# Altium footprint library ERM8-075-02.0-L-DV.PcbLib: 1 footprints
Each footprint in its own frame and in the unit in brackets; x right, y up, seen from the top. Pads: shape width x height; smd on the part's side, far side on the other; paste and mask are expansions set on the pad; w line width, h text height; cw(c..) or ccw(c..) is an arc to the next point about the centre after c.
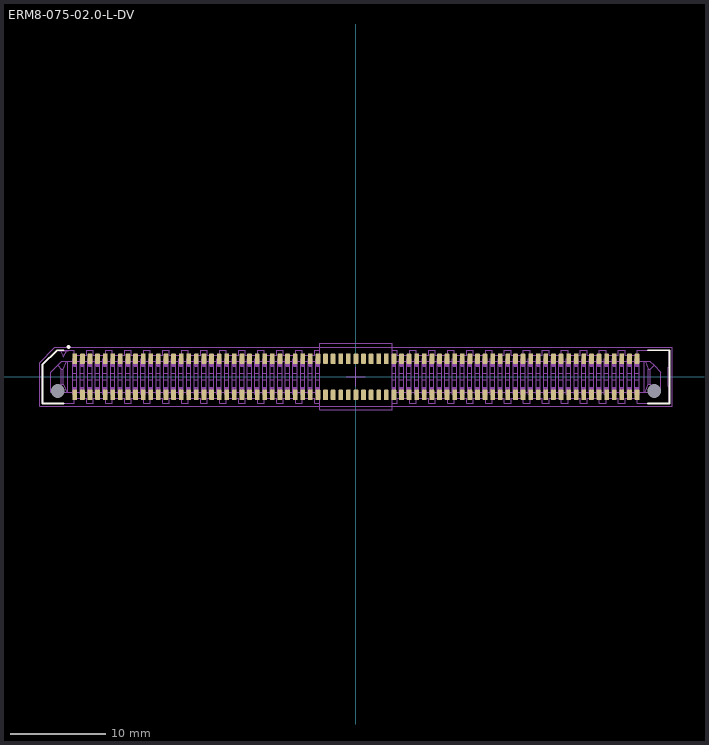
[diagram p0: the footprint, top view; thin cyan lines are the x and y axes]

## ERM8-075-02.0-L-DV [mm]
height 6.015
pads (152):
  rrect33% 0.5x1.1 smd: 1(-29.6,1.9) 2(-29.6,-1.9) 3(-28.8,1.9) 4(-28.8,-1.9) 5(-28,1.9) 6(-28,-1.9) 7(-27.2,1.9) 8(-27.2,-1.9) 9(-26.4,1.9) 10(-26.4,-1.9) 11(-25.6,1.9) 12(-25.6,-1.9) 13(-24.8,1.9) 14(-24.8,-1.9) 15(-24,1.9) 16(-24,-1.9) 17(-23.2,1.9) 18(-23.2,-1.9) 19(-22.4,1.9) 20(-22.4,-1.9) 21(-21.6,1.9) 22(-21.6,-1.9) 23(-20.8,1.9) 24(-20.8,-1.9) 25(-20,1.9) 26(-20,-1.9) 27(-19.2,1.9) 28(-19.2,-1.9) 29(-18.4,1.9) 30(-18.4,-1.9) 31(-17.6,1.9) 32(-17.6,-1.9) 33(-16.8,1.9) 34(-16.8,-1.9) 35(-16,1.9) 36(-16,-1.9) 37(-15.2,1.9) 38(-15.2,-1.9) 39(-14.4,1.9) 40(-14.4,-1.9) 41(-13.6,1.9) 42(-13.6,-1.9) 43(-12.8,1.9) 44(-12.8,-1.9) 45(-12,1.9) 46(-12,-1.9) 47(-11.2,1.9) 48(-11.2,-1.9) 49(-10.4,1.9) 50(-10.4,-1.9) 51(-9.6,1.9) 52(-9.6,-1.9) 53(-8.8,1.9) 54(-8.8,-1.9) 55(-8,1.9) 56(-8,-1.9) 57(-7.2,1.9) 58(-7.2,-1.9) 59(-6.4,1.9) 60(-6.4,-1.9) 61(-5.6,1.9) 62(-5.6,-1.9) 63(-4.8,1.9) 64(-4.8,-1.9) 65(-4,1.9) 66(-4,-1.9) 67(-3.2,1.9) 68(-3.2,-1.9) 69(-2.4,1.9) 70(-2.4,-1.9) 71(-1.6,1.9) 72(-1.6,-1.9) 73(-0.8,1.9) 74(-0.8,-1.9) 75(0,1.9) 76(0,-1.9) 77(0.8,1.9) 78(0.8,-1.9) 79(1.6,1.9) 80(1.6,-1.9) 81(2.4,1.9) 82(2.4,-1.9) 83(3.2,1.9) 84(3.2,-1.9) 85(4,1.9) 86(4,-1.9) 87(4.8,1.9) 88(4.8,-1.9) 89(5.6,1.9) 90(5.6,-1.9) 91(6.4,1.9) 92(6.4,-1.9) 93(7.2,1.9) 94(7.2,-1.9) 95(8,1.9) 96(8,-1.9) 97(8.8,1.9) 98(8.8,-1.9) 99(9.6,1.9) 100(9.6,-1.9) 101(10.4,1.9) 102(10.4,-1.9) 103(11.2,1.9) 104(11.2,-1.9) 105(12,1.9) 106(12,-1.9) 107(12.8,1.9) 108(12.8,-1.9) 109(13.6,1.9) 110(13.6,-1.9) 111(14.4,1.9) 112(14.4,-1.9) 113(15.2,1.9) 114(15.2,-1.9) 115(16,1.9) 116(16,-1.9) 117(16.8,1.9) 118(16.8,-1.9) 119(17.6,1.9) 120(17.6,-1.9) 121(18.4,1.9) 122(18.4,-1.9) 123(19.2,1.9) 124(19.2,-1.9) 125(20,1.9) 126(20,-1.9) 127(20.8,1.9) 128(20.8,-1.9) 129(21.6,1.9) 130(21.6,-1.9) 131(22.4,1.9) 132(22.4,-1.9) 133(23.2,1.9) 134(23.2,-1.9) 135(24,1.9) 136(24,-1.9) 137(24.8,1.9) 138(24.8,-1.9) 139(25.6,1.9) 140(25.6,-1.9) 141(26.4,1.9) 142(26.4,-1.9) 143(27.2,1.9) 144(27.2,-1.9) 145(28,1.9) 146(28,-1.9) 147(28.8,1.9) 148(28.8,-1.9) 149(29.6,1.9) 150(29.6,-1.9)
  round 0 hole 1.45 unplated: H1(-31.4,-1.5) H2(31.4,-1.5)
Top Overlay:
  circle w0.2: c-30.25,3.15 r0.1
  lines w0.2: -30.76,-2.8 -33,-2.8 -33,1.25 -31.45,2.8 -30.76,2.8 ; 30.76,-2.8 33,-2.8 33,2.8 30.76,2.8
Top Assembly:
  drawing of 7660 lines, arcs and shapes, not listed
  text "149" at 30.13,1.874 h0.5
  text "150" at 30.13,-2.31 h0.5
  text "1" at -30.183,1.874 h0.5
  text "2" at -30.35,-2.31 h0.5
Top Courtyard:
  lines w0.05: -33.3,-3.1 33.3,-3.1 33.3,3.1 -31.7,3.1 -33.3,1.5 -33.3,-3.1
Top Designator:
  text ".Designator" at 0,0 h1
Top Component Center:
  lines w0.05: -1,0 1,0 ; 0,-1 0,1
3D body "ERM8-075-02.0-L-DV-TR.stp": height 5.96, standoff -1.06, extent -33,-2.8 33,2.8